# Altium footprint library MX_1_25_Connect6.PcbLib: 1 footprints
Each footprint in its own frame and in the unit in brackets; x right, y up, seen from the top. Pads: shape width x height; smd on the part's side, far side on the other; paste and mask are expansions set on the pad; w line width, h text height; cw(c..) or ccw(c..) is an arc to the next point about the centre after c.
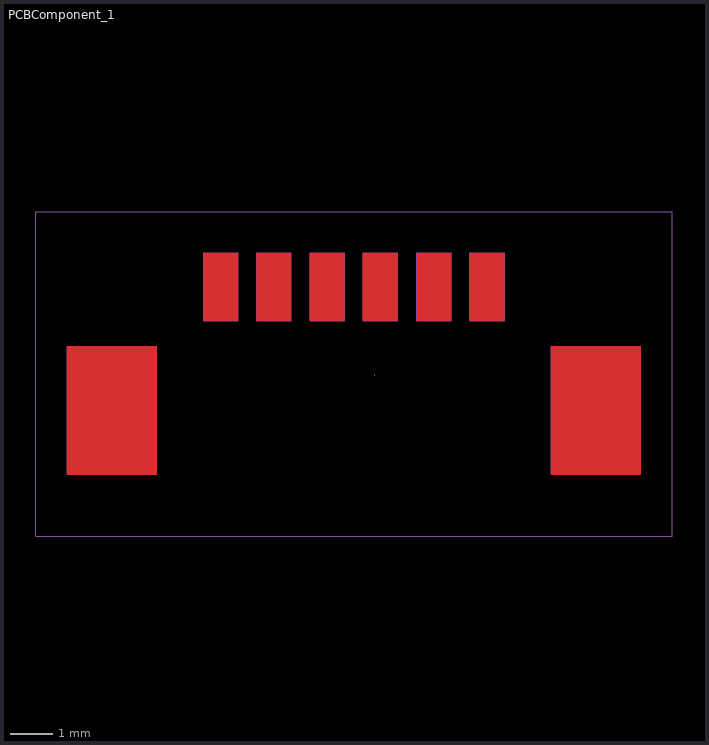
[diagram p0: the footprint, top view; thin cyan lines are the x and y axes]

## PCBComponent_1 [mm]
Top Layer:
  rectangle: -1187.501,-1153.668 -1186.688,-1152.068
  rectangle: -1188.745,-1153.668 -1187.933,-1152.068
  rectangle: -1190.015,-1153.668 -1189.203,-1152.068
  rectangle: -1191.26,-1153.668 -1190.447,-1152.068
  rectangle: -1192.505,-1153.668 -1191.692,-1152.068
  rectangle: -1193.749,-1153.668 -1192.936,-1152.068
  rectangle: -1185.596,-1157.275 -1183.488,-1154.252
  rectangle: -1196.95,-1157.275 -1194.841,-1154.252
Mechanical 1:
  circle w0.006: c-1189.736,-1154.938 r0.003
  lines w0.013: -1197.683,-1158.713 -1182.756,-1158.713 -1182.756,-1151.104 -1197.683,-1151.104 -1197.683,-1158.713 ; -1196.944,-1157.264 -1194.844,-1157.264 -1194.844,-1154.264 -1196.944,-1154.264 -1196.944,-1157.264 ; -1193.749,-1153.664 -1192.939,-1153.664 -1192.939,-1152.064 -1193.749,-1152.064 -1193.749,-1153.664 ; -1192.499,-1153.664 -1192.499,-1152.064 -1191.689,-1152.064 -1191.689,-1153.664 -1192.499,-1153.664 ; -1191.249,-1153.664 -1191.249,-1152.064 -1190.439,-1152.064 -1190.439,-1153.664 -1191.249,-1153.664 ; -1189.999,-1153.664 -1189.189,-1153.664 -1189.189,-1152.064 -1189.999,-1152.064 -1189.999,-1153.664 ; -1188.749,-1153.664 -1188.749,-1152.064 -1187.939,-1152.064 -1187.939,-1153.664 -1188.749,-1153.664 ; -1187.499,-1153.664 -1187.499,-1152.064 -1186.689,-1152.064 -1186.689,-1153.664 -1187.499,-1153.664 ; -1185.594,-1157.264 -1185.594,-1154.264 -1183.494,-1154.264 -1183.494,-1157.264 -1185.594,-1157.264
3D body "JST - GH - SMD (R) - 6Pin - 1.25mm.stp": height 3.53, standoff 0, extent -1196.582,-1157.935 -1183.754,-1152.588